# Altium integrated library MCP6001.IntLib: 1 symbol
Pins are listed as number, name and electrical type; pins without a type are passive.

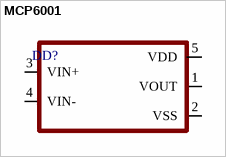
[diagram p0: symbol MCP6001]

## MCP6001
designator DD?
footprint SOT23-5
pins: 1 VOUT, 2 VSS, 3 VIN+, 4 VIN-, 5 VDD